# EAGLE library part CD4052 (library den)
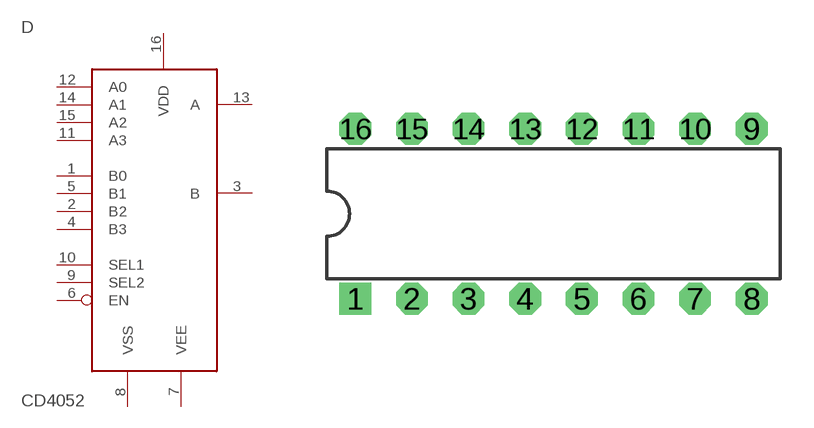
[diagram p27: symbol with the pads of DIL16; footprint DIL16]

Designator prefix D

## CD4052  [DIL16]
1  B0  pas
2  B2  pas
3  B  pas
4  B3  pas
5  B1  pas
6  EN  pas
7  VEE  pas
8  VSS  pas
9  SEL2  pas
10  SEL1  pas
11  A3  pas
12  A0  pas
13  A  pas
14  A1  pas
15  A2  pas
16  VDD  pas

## Footprint DIL16 (pad centres in mm)
Dual In Line Package
drill 0.8 pad 1.422 square: 1 -8.89,-3.81
drill 0.8 pad 1.422 octagon: 2 -6.35,-3.81; 3 -3.81,-3.81; 4 -1.27,-3.81; 5 1.27,-3.81; 6 3.81,-3.81; 7 6.35,-3.81; 8 8.89,-3.81; 9 8.89,3.81; 10 6.35,3.81; 11 3.81,3.81; 12 1.27,3.81; 13 -1.27,3.81; 14 -3.81,3.81; 15 -6.35,3.81; 16 -8.89,3.81